# EAGLE library part PINHD-2X3 (library FansElectronics-Header)
PIN HEADER
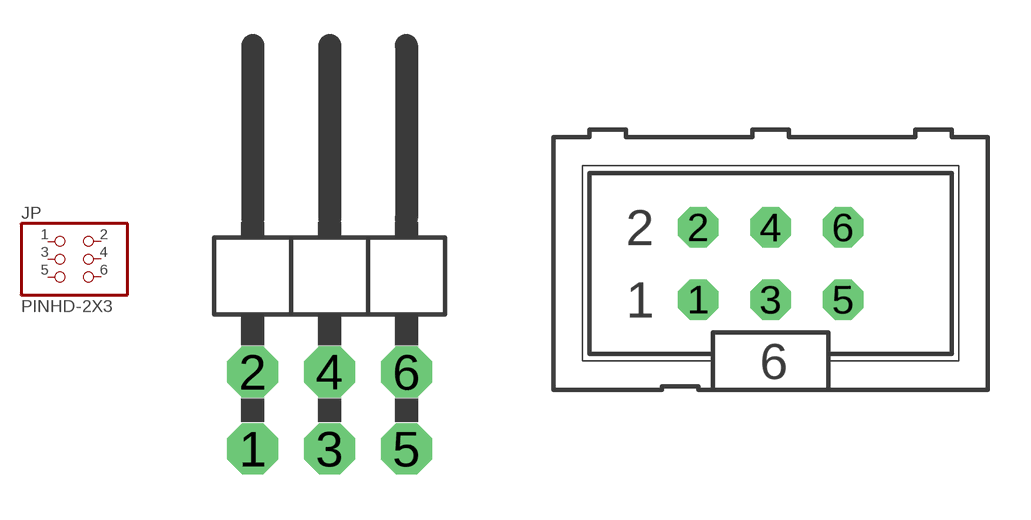
[diagram p26: symbol with the pads of 2X03/90; footprints 2X03/90, ML6]

Designator prefix JP

## PINHD-2X3/90  [2X03/90]
1  1  pas
2  2  pas
3  3  pas
4  4  pas
5  5  pas
6  6  pas

## PINHD-2X3WITH-COVER  [ML6]
Pads as for 2X03/90

## PINHD-2X3SMD  [2X03/90-SMD]
Pads as for 2X03/90

## PINHD-2X3IDE  [IDE2X3/90]
Pads as for 2X03/90

## PINHD-2X3  [2X03]
Pads as for 2X03/90

## Footprint 2X03/90 (pad centres in mm)
PIN HEADER
drill 1.016 pad 1.676 octagon: 1 -2.54,-6.35; 2 -2.54,-3.81; 3 0,-6.35; 4 0,-3.81; 5 2.54,-6.35; 6 2.54,-3.81

## Footprint ML6 (pad centres in mm)
drill 0.914 octagon: 1 -2.54,-1.27; 2 -2.54,1.27; 3 0,-1.27; 4 0,1.27; 5 2.54,-1.27; 6 2.54,1.27

## Footprint 2X03/90-SMD (pad centres in mm)
smd 1.93 x 3.81: 1 -2.54,-3.175; 3 0,-3.175; 5 2.54,-3.175
smd 1.93 x 3.81 bottom: 2 -2.54,-3.175; 4 0,-3.175; 6 2.54,-3.175

## Footprint IDE2X3/90 (pad centres in mm)
smd 1.93 x 3.81: 1 3.651,-3.175; 3 1.111,-3.175; 5 -1.429,-3.175
smd 1.93 x 3.81 bottom: 2 2.381,-3.175; 4 -0.159,-3.175; 6 -2.699,-3.175

## Footprint 2X03 (pad centres in mm)
PIN HEADER
drill 1.016 pad 1.5 octagon: 1 -2.54,-1.27; 2 -2.54,1.27; 3 0,-1.27; 4 0,1.27; 5 2.54,-1.27; 6 2.54,1.27